# EAGLE library part BD6211F (library mille-feuille)
BD6211F - RHOM - DC Brush Motor Drivers (7V Max)
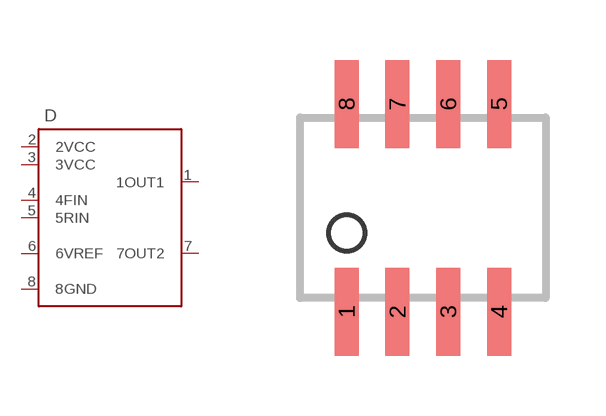
[diagram p13: symbol with the pads of SOP8; footprint SOP8]

Designator prefix D

## BD6211F  [SOP8]
1  1OUT1
2  2VCC
3  3VCC
4  4FIN
5  5RIN
6  6VREF
7  7OUT2
8  8GND

## Footprint SOP8 (pad centres in mm)
smd 0.6 x 2.2: 1 -1.905,-2.6; 2 -0.635,-2.6; 3 0.635,-2.6; 4 1.905,-2.6; 5 1.905,2.6; 6 0.635,2.6; 7 -0.635,2.6; 8 -1.905,2.6